# EAGLE library part ADXL345 (library Dal_V2)
ADXL345 from Analog Devices
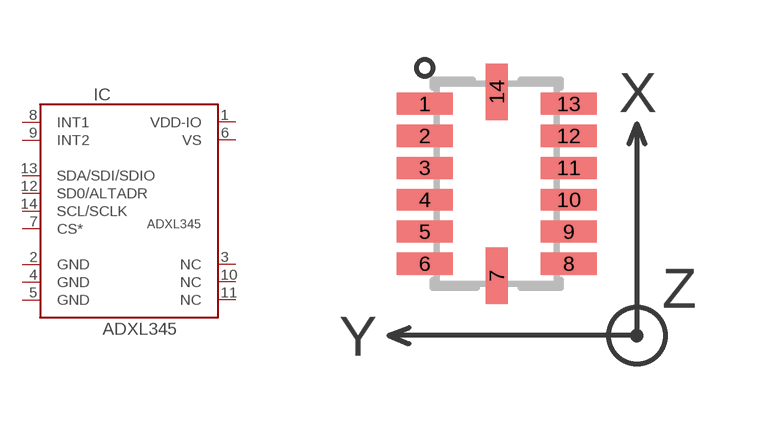
[diagram p0: symbol with the pads of ADXL345-SMD; footprint ADXL345-SMD]

Designator prefix IC

## ADXL345  [ADXL345-SMD]
1  VDD-IO  in
2  GND  in
3  NC  nc
4  GND  in
5  GND  in
6  VS  in
7  CS*  in
8  INT1  out
9  INT2  out
10  NC  nc
11  NC  nc
12  SD0/ALTADR
13  SDA/SDI/SDIO
14  SCL/SCLK  in

## Footprint ADXL345-SMD (pad centres in mm)
smd 1.4 x 0.55: 1 -1.8,2; 2 -1.8,1.2; 3 -1.8,0.4; 4 -1.8,-0.4; 5 -1.8,-1.2; 6 -1.8,-2; 8 1.8,-2; 9 1.8,-1.2; 10 1.8,-0.4; 11 1.8,0.4; 12 1.8,1.2; 13 1.8,2
smd 0.55 x 1.4: 7 0,-2.3; 14 0,2.3